# EAGLE library part ES9822QPRO (library ES9822QPRO)
Analog to Digital Converters - ADC Sabre stereo reference PRO ADC5 mm x 5mm, 40 pin QFN Source: Datasheet <https://www.esstech.com/wp-content/uploads/2022/09/ES9822PRO_DS_v0.3.pdf>
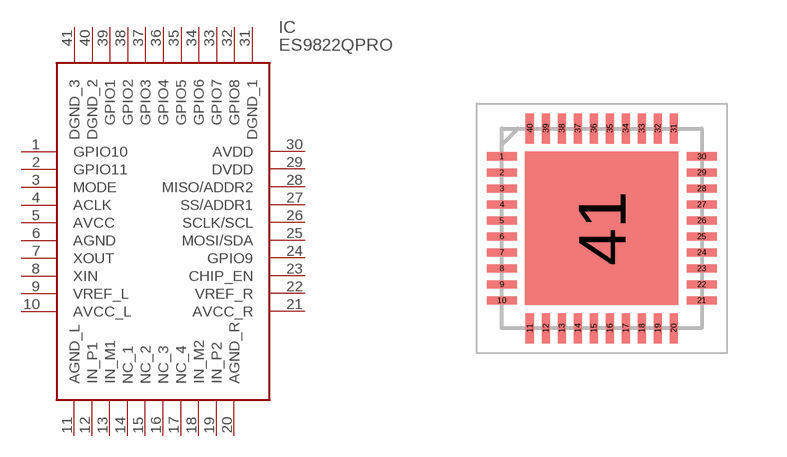
[diagram p0: symbol with the pads of QFN40P500X500X80-41N; footprint QFN40P500X500X80-41N]

Designator prefix IC

## ES9822QPRO (Description: Analog to Digital Converters - ADC Sabre stereo reference PRO ADC5 mm x 5mm, 40 pin QFN; Height: 0.8mm; Manufacturer_Name: ESS Technology; Manufacturer_Part_Number: ES9822QPRO; Mouser_Part_Number: 460-ES9822QPRO; Mouser_Price-Stock: https://www.mouser.co.uk/ProductDetail/ESS-Technology/ES9822QPRO?qs=A6eO%252BMLsxmRg8Ilt0hzh%2Fg%3D%3D)  [QFN40P500X500X80-41N]
1  GPIO10
2  GPIO11
3  MODE
4  ACLK
5  AVCC
6  AGND
7  XOUT
8  XIN
9  VREF_L
10  AVCC_L
11  AGND_L
12  IN_P1
13  IN_M1
14  NC_1
15  NC_2
16  NC_3
17  NC_4
18  IN_M2
19  IN_P2
20  AGND_R
21  AVCC_R
22  VREF_R
23  CHIP_EN
24  GPIO9
25  MOSI/SDA
26  SCLK/SCL
27  SS/ADDR1
28  MISO/ADDR2
29  DVDD
30  AVDD
31  DGND_1
32  GPIO8
33  GPIO7
34  GPIO6
35  GPIO5
36  GPIO4
37  GPIO3
38  GPIO2
39  GPIO1
40  DGND_2
41  DGND_3

## Footprint QFN40P500X500X80-41N (pad centres in mm)
mm x 5mm, 40 pin QFN
smd 0.75 x 0.2: 1 -2.5,1.8; 2 -2.5,1.4; 3 -2.5,1; 4 -2.5,0.6; 5 -2.5,0.2; 6 -2.5,-0.2; 7 -2.5,-0.6; 8 -2.5,-1; 9 -2.5,-1.4; 10 -2.5,-1.8; 21 2.5,-1.8; 22 2.5,-1.4; 23 2.5,-1; 24 2.5,-0.6; 25 2.5,-0.2; 26 2.5,0.2; 27 2.5,0.6; 28 2.5,1; 29 2.5,1.4; 30 2.5,1.8
smd 0.2 x 0.75: 11 -1.8,-2.5; 12 -1.4,-2.5; 13 -1,-2.5; 14 -0.6,-2.5; 15 -0.2,-2.5; 16 0.2,-2.5; 17 0.6,-2.5; 18 1,-2.5; 19 1.4,-2.5; 20 1.8,-2.5; 31 1.8,2.5; 32 1.4,2.5; 33 1,2.5; 34 0.6,2.5; 35 0.2,2.5; 36 -0.2,2.5; 37 -0.6,2.5; 38 -1,2.5; 39 -1.4,2.5; 40 -1.8,2.5
smd 3.84 x 3.84: 41 0,0